# Altium schematic symbol library Altium_SIM.SchLib: 1 symbol
Pins are listed as number, name and electrical type; pins without a type are passive.

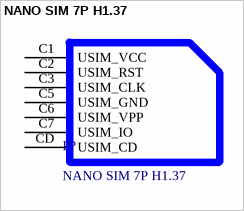
[diagram p0: symbol NANO SIM 7P H1.37]

## NANO SIM 7P H1.37
designator P?
Brass Alloy Self-bouncing Gold 1.37mm Card Slot -40℃~+70℃ Nano SIM card SMD SIM Card Connectors ROHS; Manufacturer: SHOU HAN; Pad Count: 7; LCSC Part #: C7529384; ComponentLink1Description: Datasheet; ComponentLink1URL: https://www.lcsc.com/datasheet/lcsc_datasheet_2308181409_SHOU-HAN-NANO-SIM-7P-H1-37_C7529384.pdf; Manufacturer Part Number: NANO SIM 7P H1.37; Mount: SMD/SMT; Operating Temperature Max: + 70 C; Operating Temperature Min: - 40 C; Packaging: Tape and Reel; Supplier 1: Mouser; Supplier 1 Part Number: N/A; Supplier 1 URL: N/A; Supplier 2: Digi-Key; Supplier 2 Part Number: N/A; Supplier 2 URL: N/A; Supplier 3: thegioiic; Supplier 3 Part Number: N/A; Supplier 3 URL: N/A; Supply Voltage - Max: N/A; Supply Voltage - Min: N/A; Value: NANO SIM 7P H1.37
footprint NANO SIM 7P H1.37
pins: C1 USIM_VCC, C2 USIM_RST, C3 USIM_CLK, C5 USIM_GND, C6 USIM_VPP, C7 USIM_IO, CD USIM_CD